# EAGLE library part S1D13517F00A100-ND (library S1D13517)
S1D13517F00A100-ND IC GRAPHIC LCD CTRLR 128LQFP
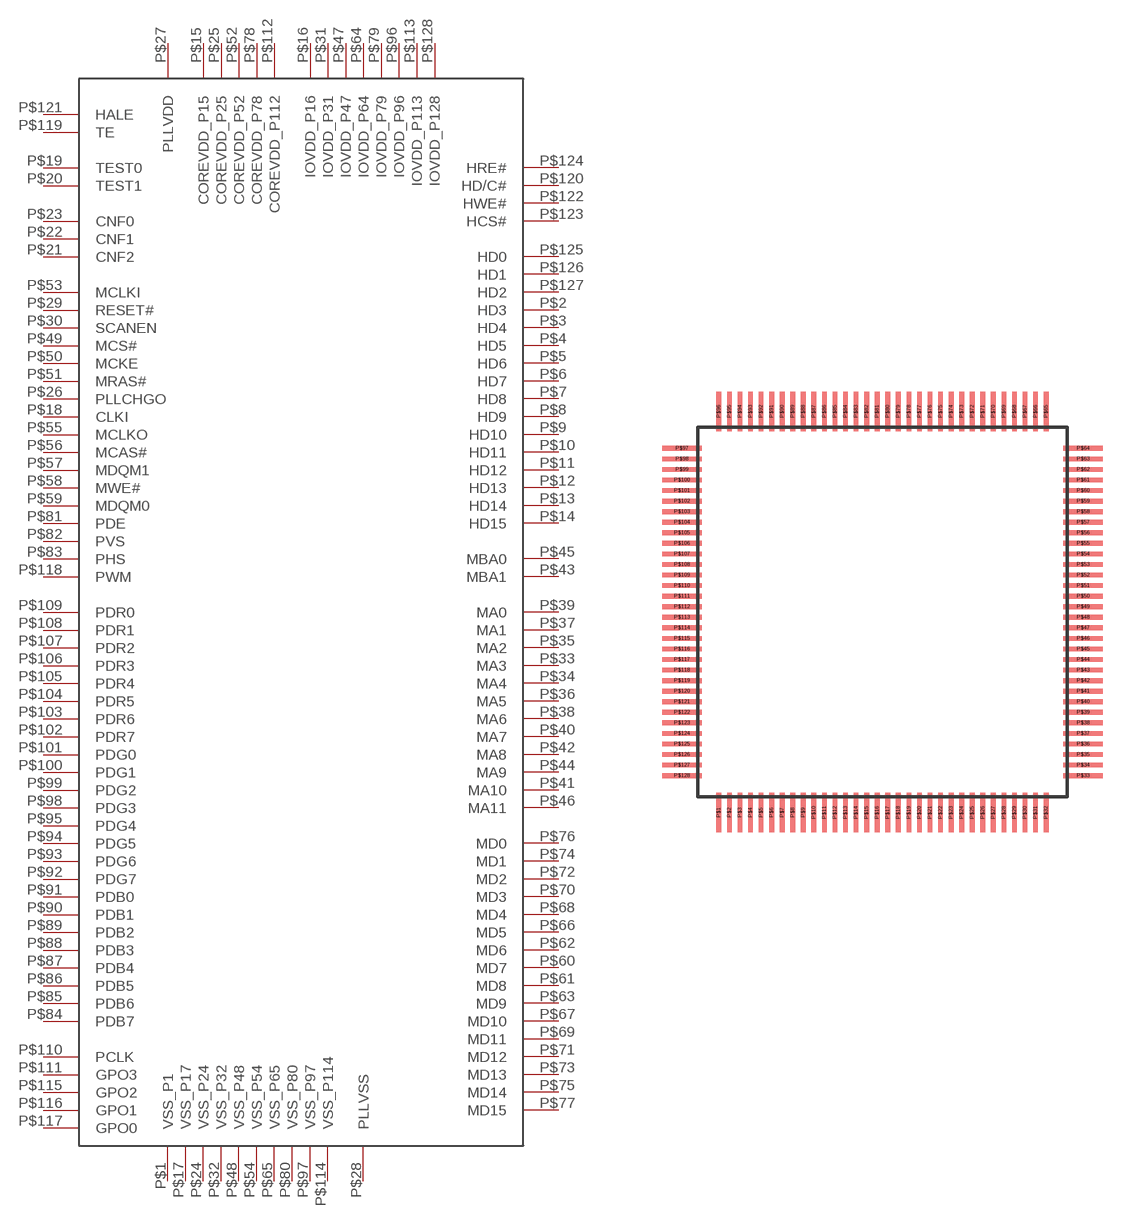
[diagram p0: symbol with the pads of LQFP128; footprint LQFP128]

Designator prefix -

## S1D13517F00A100-ND  [LQFP128]
P$1  VSS_P1
P$2  HD3
P$3  HD4
P$4  HD5
P$5  HD6
P$6  HD7
P$7  HD8
P$8  HD9
P$9  HD10
P$10  HD11
P$11  HD12
P$12  HD13
P$13  HD14
P$14  HD15
P$15  COREVDD_P15
P$16  IOVDD_P16
P$17  VSS_P17
P$18  CLKI
P$19  TEST0
P$20  TEST1
P$21  CNF2
P$22  CNF1
P$23  CNF0
P$24  VSS_P24
P$25  COREVDD_P25
P$26  PLLCHGO
P$27  PLLVDD
P$28  PLLVSS
P$29  RESET#
P$30  SCANEN
P$31  IOVDD_P31
P$32  VSS_P32
P$33  MA3
P$34  MA4
P$35  MA2
P$36  MA5
P$37  MA1
P$38  MA6
P$39  MA0
P$40  MA7
P$41  MA10
P$42  MA8
P$43  MBA1
P$44  MA9
P$45  MBA0
P$46  MA11
P$47  IOVDD_P47
P$48  VSS_P48
P$49  MCS#
P$50  MCKE
P$51  MRAS#
P$52  COREVDD_P52
P$53  MCLKI
P$54  VSS_P54
P$55  MCLKO
P$56  MCAS#
P$57  MDQM1
P$58  MWE#
P$59  MDQM0
P$60  MD7
P$61  MD8
P$62  MD6
P$63  MD9
P$64  IOVDD_P64
P$65  VSS_P65
P$66  MD5
P$67  MD10
P$68  MD4
P$69  MD11
P$70  MD3
P$71  MD12
P$72  MD2
P$73  MD13
P$74  MD1
P$75  MD14
P$76  MD0
P$77  MD15
P$78  COREVDD_P78
P$79  IOVDD_P79
P$80  VSS_P80
P$81  PDE
P$82  PVS
P$83  PHS
P$84  PDB7
P$85  PDB6
P$86  PDB5
P$87  PDB4
P$88  PDB3
P$89  PDB2
P$90  PDB1
P$91  PDB0
P$92  PDG7
P$93  PDG6
P$94  PDG5
P$95  PDG4
P$96  IOVDD_P96
P$97  VSS_P97
P$98  PDG3
P$99  PDG2
P$100  PDG1
P$101  PDG0
P$102  PDR7
P$103  PDR6
P$104  PDR5
P$105  PDR4
P$106  PDR3
P$107  PDR2
P$108  PDR1
P$109  PDR0
P$110  PCLK
P$111  GPO3
P$112  COREVDD_P112
P$113  IOVDD_P113
P$114  VSS_P114
P$115  GPO2
P$116  GPO1
P$117  GPO0
P$118  PWM
P$119  TE
P$120  HD/C#
P$121  HALE
P$122  HWE#
P$123  HCS#
P$124  HRE#
P$125  HD0
P$126  HD1
P$127  HD2
P$128  IOVDD_P128

## Footprint LQFP128 (pad centres in mm)
S1D13517F00A100-ND IC GRAPHIC LCD CTRLR 128LQFP
smd 0.18 x 1.5: P$1 0.8,-0.6; P$2 1.2,-0.6; P$3 1.6,-0.6; P$4 2,-0.6; P$5 2.4,-0.6; P$6 2.8,-0.6; P$7 3.2,-0.6; P$8 3.6,-0.6; P$9 4,-0.6; P$10 4.4,-0.6; P$11 4.8,-0.6; P$12 5.2,-0.6; P$13 5.6,-0.6; P$14 6,-0.6; P$15 6.4,-0.6; P$16 6.8,-0.6; P$17 7.2,-0.6; P$18 7.6,-0.6; P$19 8,-0.6; P$20 8.4,-0.6; P$21 8.8,-0.6; P$22 9.2,-0.6; P$23 9.6,-0.6; P$24 10,-0.6; P$25 10.4,-0.6; P$26 10.8,-0.6; P$27 11.2,-0.6; P$28 11.6,-0.6; P$29 12,-0.6; P$30 12.4,-0.6; P$31 12.8,-0.6; P$32 13.2,-0.6; P$65 13.2,14.6; P$66 12.8,14.6; P$67 12.4,14.6; P$68 12,14.6; P$69 11.6,14.6; P$70 11.2,14.6; P$71 10.8,14.6; P$72 10.4,14.6; P$73 10,14.6; P$74 9.6,14.6; P$75 9.2,14.6; P$76 8.8,14.6; P$77 8.4,14.6; P$78 8,14.6; P$79 7.6,14.6; P$80 7.2,14.6; P$81 6.8,14.6; P$82 6.4,14.6; P$83 6,14.6; P$84 5.6,14.6; P$85 5.2,14.6; P$86 4.8,14.6; P$87 4.4,14.6; P$88 4,14.6; P$89 3.6,14.6; P$90 3.2,14.6; P$91 2.8,14.6; P$92 2.4,14.6; P$93 2,14.6; P$94 1.6,14.6; P$95 1.2,14.6; P$96 0.8,14.6
smd 1.5 x 0.18: P$33 14.6,0.8; P$34 14.6,1.2; P$35 14.6,1.6; P$36 14.6,2; P$37 14.6,2.4; P$38 14.6,2.8; P$39 14.6,3.2; P$40 14.6,3.6; P$41 14.6,4; P$42 14.6,4.4; P$43 14.6,4.8; P$44 14.6,5.2; P$45 14.6,5.6; P$46 14.6,6; P$47 14.6,6.4; P$48 14.6,6.8; P$49 14.6,7.2; P$50 14.6,7.6; P$51 14.6,8; P$52 14.6,8.4; P$53 14.6,8.8; P$54 14.6,9.2; P$55 14.6,9.6; P$56 14.6,10; P$57 14.6,10.4; P$58 14.6,10.8; P$59 14.6,11.2; P$60 14.6,11.6; P$61 14.6,12; P$62 14.6,12.4; P$63 14.6,12.8; P$64 14.6,13.2; P$97 -0.6,13.2; P$98 -0.6,12.8; P$99 -0.6,12.4; P$100 -0.6,12; P$101 -0.6,11.6; P$102 -0.6,11.2; P$103 -0.6,10.8; P$104 -0.6,10.4; P$105 -0.6,10; P$106 -0.6,9.6; P$107 -0.6,9.2; P$108 -0.6,8.8; P$109 -0.6,8.4; P$110 -0.6,8; P$111 -0.6,7.6; P$112 -0.6,7.2; P$113 -0.6,6.8; P$114 -0.6,6.4; P$115 -0.6,6; P$116 -0.6,5.6; P$117 -0.6,5.2; P$118 -0.6,4.8; P$119 -0.6,4.4; P$120 -0.6,4; P$121 -0.6,3.6; P$122 -0.6,3.2; P$123 -0.6,2.8; P$124 -0.6,2.4; P$125 -0.6,2; P$126 -0.6,1.6; P$127 -0.6,1.2; P$128 -0.6,0.8